# Altium footprint library VQFN-28 (6x6).PcbLib: 1 footprints
Each footprint in its own frame and in the unit in brackets; x right, y up, seen from the top. Pads: shape width x height; smd on the part's side, far side on the other; paste and mask are expansions set on the pad; w line width, h text height; cw(c..) or ccw(c..) is an arc to the next point about the centre after c.
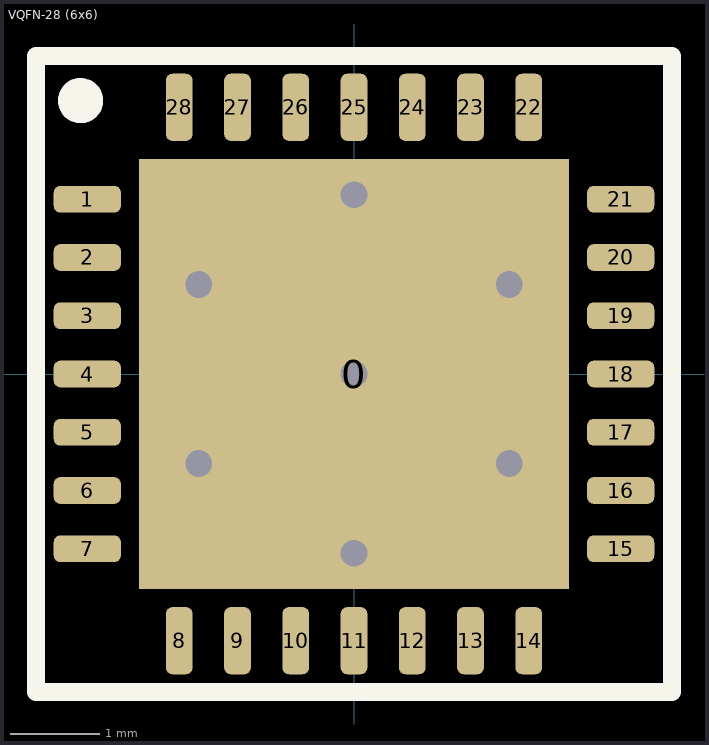
[diagram p0: the footprint, top view; thin cyan lines are the x and y axes]

## VQFN-28 (6x6) [mm]
pads (29):
  rect 4.8x4.8 hole 0.3: 0(0,0)
  rrect50% 0.75x0.3 smd: 1(-2.975,1.95) 2(-2.975,1.3) 3(-2.975,0.65) 4(-2.975,0) 5(-2.975,-0.65) 6(-2.975,-1.3) 7(-2.975,-1.95) 15(2.975,-1.95) 16(2.975,-1.3) 17(2.975,-0.65) 18(2.975,0) 19(2.975,0.65) 20(2.975,1.3) 21(2.975,1.95)
  rrect50% 0.3x0.75 smd: 8(-1.95,-2.975) 9(-1.3,-2.975) 10(-0.65,-2.975) 11(0,-2.975) 12(0.65,-2.975) 13(1.3,-2.975) 14(1.95,-2.975) 22(1.95,2.975) 23(1.3,2.975) 24(0.65,2.975) 25(0,2.975) 26(-0.65,2.975) 27(-1.3,2.975) 28(-1.95,2.975)
via 0,2 diameter 0.7 hole 0.3
via 0,-2 diameter 0.7 hole 0.3
via 1.732,-1 diameter 0.7 hole 0.3
via 1.732,1 diameter 0.7 hole 0.3
via -1.732,1 diameter 0.7 hole 0.3
via -1.732,-1 diameter 0.7 hole 0.3
Top Overlay:
  circle w0.254: c-3.05,3.05 r0.125
  lines w0.2: -3.55,-3.55 3.55,-3.55 3.55,3.55 -3.55,3.55 -3.55,-3.55
Top Paste:
  region: -2.125,1.5 -0.5,1.5 -0.5,2.25 -2.125,2.25
  region: 2.125,1.5 0.5,1.5 0.5,2.25 2.125,2.25
  region: 2.125,-1.5 0.5,-1.5 0.5,-2.25 2.125,-2.25
  region: -2.125,-0.5 -0.5,-0.5 -0.5,0.5 -2.125,0.5
  region: -2.125,-1.5 -0.5,-1.5 -0.5,-2.25 -2.125,-2.25
  region: 2.125,-0.5 0.5,-0.5 0.5,0.5 2.125,0.5
Top Assembly:
  circle w0.254: c-3.05,3.05 r0.125
  lines w0.1: -3.55,-3.55 3.55,-3.55 3.55,3.55 -3.55,3.55 -3.55,-3.55
  text "'.Designator'" at -1,-0.3 h0.7
3D body "User Library-QFN-28.STEP": height 1.02, standoff -0.08, extent -3,-3 3,3